# EAGLE library part SMD-CONN-6PIN (library FaBo-Connetor)
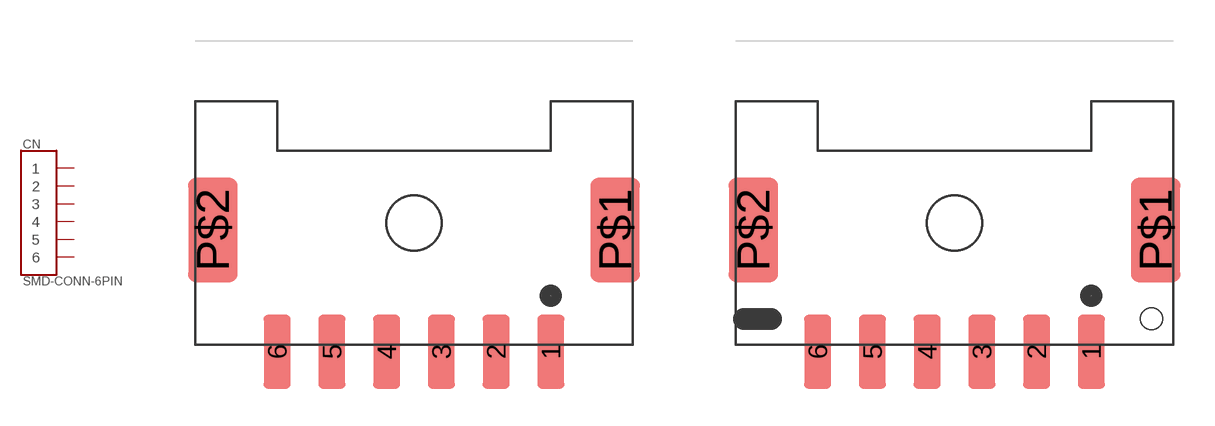
[diagram p5: symbol with the pads of SM06B-PASS; footprints SM06B-PASS, SM06B-PASS-1]

Designator prefix CN

## SMD-CONN-6PIN-SM06B-PASS  [SM06B-PASS]
1  1
2  2
3  3
4  4
5  5
6  6

## SMD-CONN-6PIN-SM06B-PASS-1  [SM06B-PASS-1]
Pads as for SM06B-PASS

## Footprint SM06B-PASS (pad centres in mm)
JST 2mmピッチ SMD ボス無し
smd 1 x 2.7: 1 5,-11.85; 2 3,-11.85; 3 1,-11.85; 4 -1,-11.85; 5 -3,-11.85; 6 -5,-11.85
smd 1.8 x 3.8: P$1 7.35,-7.4; P$2 -7.35,-7.4

## Footprint SM06B-PASS-1 (pad centres in mm)
JST 2mmピッチ SMD ボス有り
smd 1 x 2.7: 1 5,-11.85; 2 3,-11.85; 3 1,-11.85; 4 -1,-11.85; 5 -3,-11.85; 6 -5,-11.85
smd 1.8 x 3.8: P$1 7.35,-7.4; P$2 -7.35,-7.4
hole 0.8 at 7.2,-10.65